# EAGLE library part SX70-7-PAD (library openSX70)
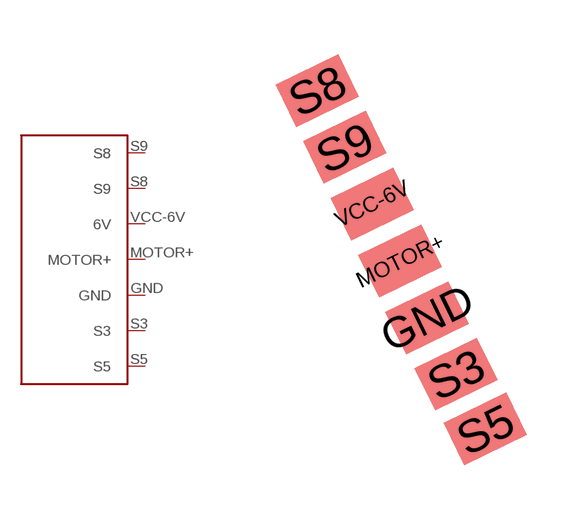
[diagram p0: symbol with the pads of SX70-7-PAD; footprint SX70-7-PAD]

Designator prefix -

## SX70-7-PAD  [SX70-7-PAD]
GND  GND
MOTOR+  MOTOR+
S3  S3
S5  S5
S8  S9
S9  S8
VCC-6V  6V

## Footprint SX70-7-PAD (pad centres in mm)
smd 1.31 x 1.93 rotated 296: GND 3.404,0.495; MOTOR+ 2.654,2.07; S3 4.204,-1.067; S5 5.016,-2.591; S8 0.356,6.807; S9 1.118,5.232; VCC-6V 1.88,3.658